# Altium footprint library PcbLib1.PcbLib: 264 footprints (part 7 of 17)
Each footprint in its own frame and in the unit in brackets; x right, y up, seen from the top. Pads: shape width x height; smd on the part's side, far side on the other; paste and mask are expansions set on the pad; w line width, h text height; cw(c..) or ccw(c..) is an arc to the next point about the centre after c.
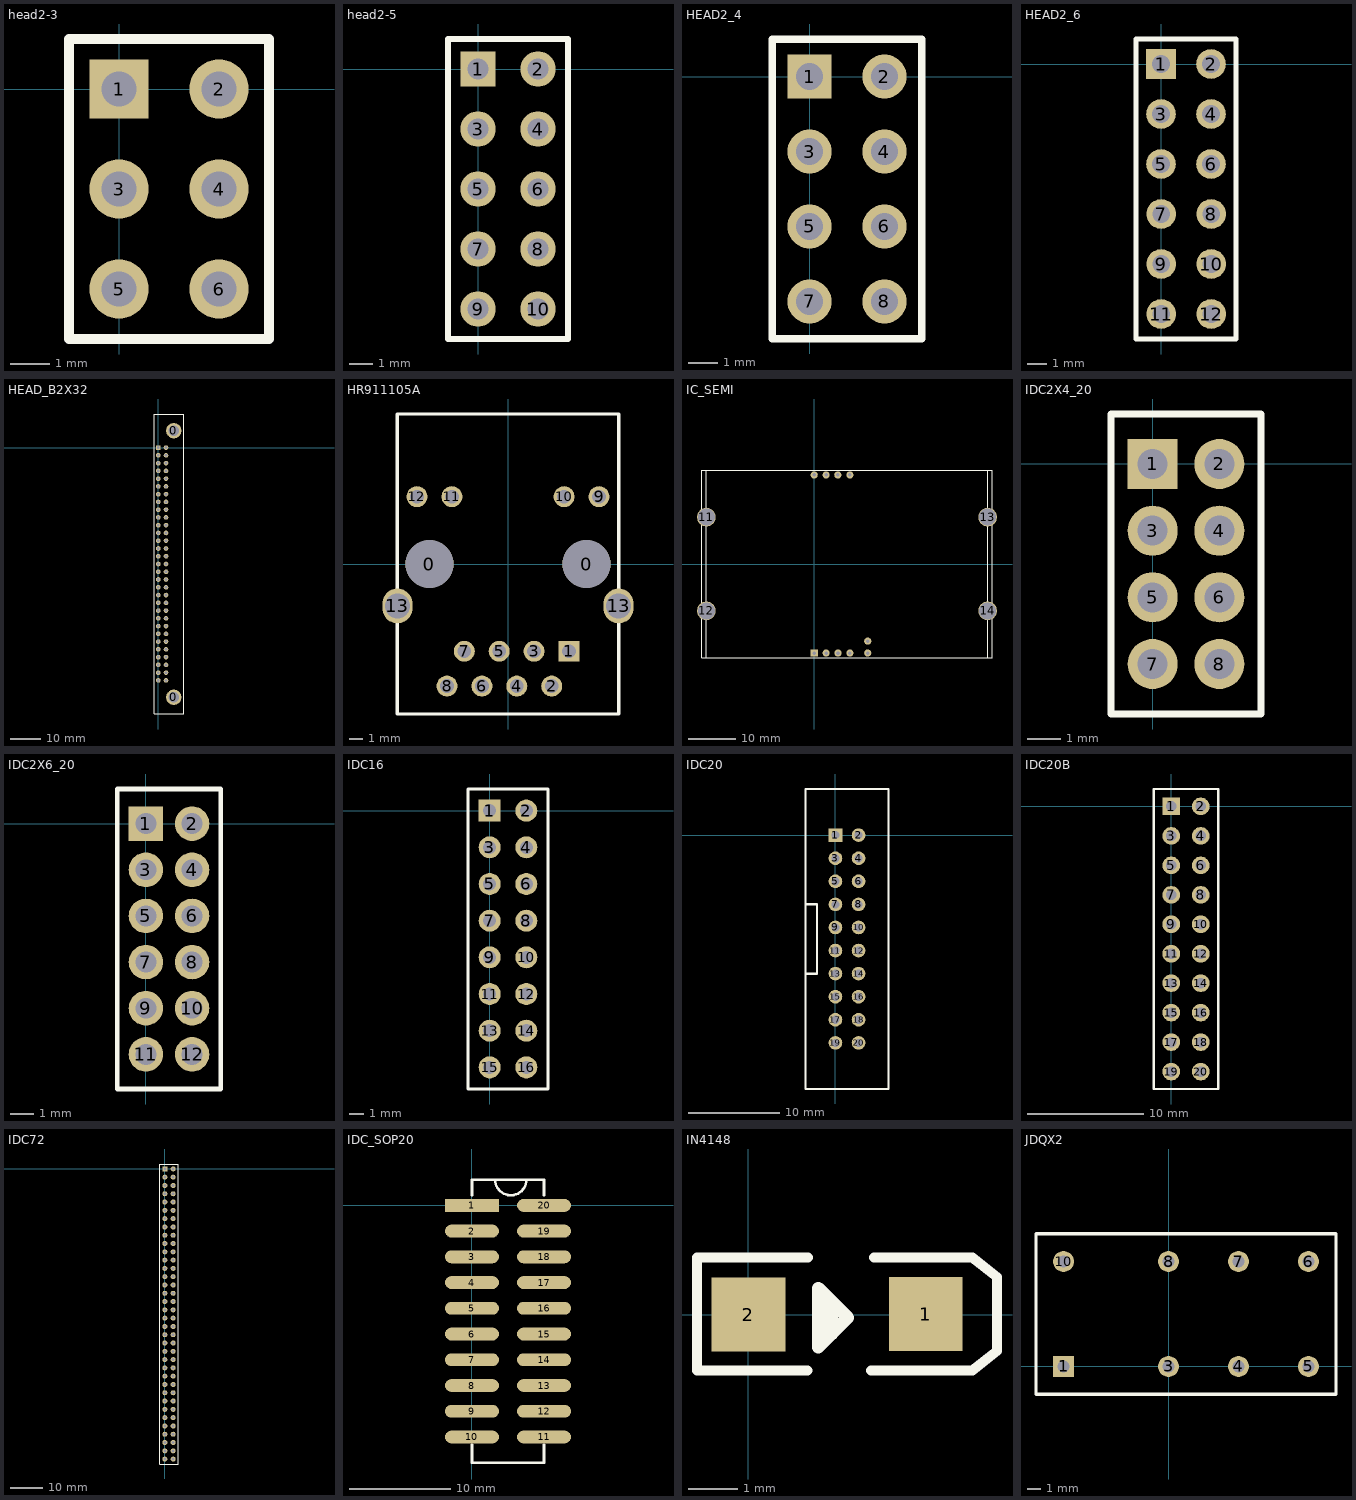
[diagram p6: the footprints below, top view; thin cyan lines are the x and y axes]

## head2-3 [mm]
pads (6):
  rect 1.5x1.5 hole 0.9: 1(0,0)
  round 1.5 hole 0.9: 2(2.54,0) 3(0,-2.54) 4(2.54,-2.54) 5(0,-5.08) 6(2.54,-5.08)
Top Overlay:
  lines w0.254: 3.8,-6.35 -1.27,-6.35 -1.27,1.27 3.81,1.27 3.81,-6.35

## head2-5 [mm]
pads (10):
  rect 1.5x1.5 hole 0.9: 1(0,0)
  round 1.5 hole 0.9: 2(2.54,0) 3(0,-2.54) 4(2.54,-2.54) 5(0,-5.08) 6(2.54,-5.08) 7(0,-7.62) 8(2.54,-7.62) 9(0,-10.16) 10(2.54,-10.16)
Top Overlay:
  lines w0.254: -1.27,-11.43 3.81,-11.43 3.81,1.27 -1.27,1.27 -1.27,-11.43

## HEAD2_4 [mm]
pads (8):
  rect 1.5x1.5 hole 0.9: 1(0,0)
  round 1.5 hole 0.9: 2(2.54,0) 3(0,-2.54) 4(2.54,-2.54) 5(0,-5.08) 6(2.54,-5.08) 7(0,-7.62) 8(2.54,-7.62)
Top Overlay:
  lines w0.254: -1.27,-8.89 3.81,-8.89 3.81,1.27 -1.27,1.27 -1.27,-8.89

## HEAD2_6 [mm]
pads (12):
  rect 1.5x1.5 hole 0.9: 1(0,0)
  round 1.5 hole 0.9: 2(2.54,0) 3(0,-2.54) 4(2.54,-2.54) 5(0,-5.08) 6(2.54,-5.08) 7(0.01,-7.62) 8(2.55,-7.62) 9(0.01,-10.16) 10(2.55,-10.16) 11(0.01,-12.7) 12(2.55,-12.7)
Top Overlay:
  lines w0.254: -1.27,-13.97 3.81,-13.97 3.81,1.27 -1.27,1.27 -1.27,-13.97

## HEAD_B2X32 [mm]
pads (64):
  round 5 hole 3.5: 0(5.08,-81.74) 0(5.08,5.54)
  rect 1.5x1.5 hole 0.9: 1(0,0)
  round 1.5 hole 0.9: 2(2.54,0) 3(0,-2.54) 4(2.54,-2.54) 5(0,-5.08) 6(2.54,-5.08) 7(0,-7.62) 8(2.54,-7.62) 9(0,-10.16) 10(2.54,-10.16) 11(0,-12.7) 12(2.54,-12.7) 13(0,-15.24) 14(2.54,-15.24) 15(0,-17.78) 16(2.54,-17.78) 17(0,-20.32) 18(2.54,-20.32) 19(0,-22.86) 20(2.54,-22.86) 21(0,-25.4) 22(2.54,-25.4) 23(0,-27.94) 24(2.54,-27.94) 25(0,-30.48) 26(2.54,-30.48) 27(0,-33.02) 28(2.54,-33.02) 29(0,-35.56) 30(2.54,-35.56) 31(0,-38.1) 32(2.54,-38.1) 33(0,-40.64) 34(2.54,-40.64) 35(0,-43.18) 36(2.54,-43.18) 37(0,-45.72) 38(2.54,-45.72) 39(0,-48.26) 40(2.54,-48.26) 41(0,-50.8) 42(2.54,-50.8) 43(0,-53.34) 44(2.54,-53.34) 45(0,-55.88) 46(2.54,-55.88) 47(0,-58.42) 48(2.54,-58.42) 49(0,-60.96) 50(2.54,-60.96) 51(0,-63.5) 52(2.54,-63.5) 53(0,-66.04) 54(2.54,-66.04) 55(0,-68.58) 56(2.54,-68.58) 57(0,-71.12) 58(2.54,-71.12) 59(0,-73.66) 60(2.54,-73.66) 61(0,-76.2) 62(2.54,-76.2)
Top Overlay:
  lines w0.254: -1.27,-87.2 -1.27,11 8.3,11 8.3,-87.2 -1.27,-87.2

## HR911105A [mm]
pads (16):
  round 3.5 hole 3.5: 0(-5.715,0) 0(5.715,0)
  rect 1.524x1.524 hole 1: 1(4.44,-6.35)
  round 1.524 hole 1: 2(3.18,-8.89) 3(1.9,-6.35) 4(0.64,-8.89) 5(-0.64,-6.35) 6(-1.9,-8.89) 7(-3.18,-6.35) 8(-4.44,-8.89) 9(6.625,4.9) 10(4.085,4.9) 11(-4.085,4.9) 12(-6.625,4.9)
  oval 2.2x2.54 hole 1.8: 13(-8.05,-3.05) 13(8.05,-3.05)
Top Overlay:
  lines w0.254: -8.05,-10.92 -8.05,10.92 8.05,10.92 8.05,-10.92 -8.05,-10.92

## IC_SEMI [mm]
pads (14):
  rect 1.524x1.524 hole 0.762: 1(0,-19.01)
  round 1.524 hole 0.762: 2(2.54,-19) 3(5.08,-19) 4(7.62,-19) 5(0,19) 6(2.54,19) 7(5.04,19) 8(7.62,19) 9(11.42,-19) 10(11.42,-16.46)
  round 4 hole 3.6: 11(-23,10) 12(-23,-10) 13(37,10) 14(37,-10)
Top Overlay:
  lines w0.127: -24,-20 -24,20 38,20 38,-20 -24,-20
  lines w0.254: -23,-20 -23,20 ; 37,-20 37,20

## IDC2X4_20 [mm]
pads (8):
  rect 1.5x1.5 hole 0.9: 1(0,0)
  round 1.5 hole 0.9: 2(2,0) 3(0,-2) 4(2,-2) 5(0,-4) 6(2,-4) 7(0,-6) 8(2,-6)
Top Overlay:
  lines w0.2: -1.25,-7.5 3.25,-7.5 3.25,1.5 -1.25,1.5 -1.25,-7.5

## IDC2X6_20 [mm]
pads (12):
  rect 1.5x1.5 hole 0.9: 1(0,0)
  round 1.5 hole 0.9: 2(2,0) 3(0,-2) 4(2,-2) 5(0,-4) 6(2,-4) 7(0,-6) 8(2,-6) 9(0,-8) 10(2,-8) 11(0,-10) 12(2,-10)
Top Overlay:
  lines w0.2: -1.25,-11.5 3.25,-11.5 3.25,1.5 -1.25,1.5 -1.25,-11.5

## IDC16 [mil]
pads (16):
  rect 60x60 hole 35.43: 1(0,0)
  round 60 hole 35.43: 2(100,0) 3(0,-100) 4(100,-100) 5(0,-200) 6(100,-200) 7(0,-300) 8(100,-300) 9(0,-400) 10(100,-400) 11(0,-500) 12(100,-500) 13(0,-600) 14(100,-600) 15(0,-700) 16(100,-700)
Top Overlay:
  lines w7.87: -59.06,-759.06 159.06,-759.06 159.06,59.06 -59.06,59.06 -59.06,-759.06

## IDC20 [mm]
pads (20):
  rect 1.5x1.5 hole 0.9: 1(0,0)
  round 1.5 hole 0.9: 2(2.54,0) 3(0,-2.54) 4(2.54,-2.54) 5(0,-5.08) 6(2.54,-5.08) 7(0,-7.62) 8(2.54,-7.62) 9(0,-10.16) 10(2.54,-10.16) 11(0,-12.7) 12(2.54,-12.7) 13(0,-15.24) 14(2.54,-15.24) 15(0,-17.78) 16(2.54,-17.78) 17(0,-20.32) 18(2.54,-20.32) 19(0,-22.86) 20(2.54,-22.86)
Top Overlay:
  lines w0.254: -3.302,-15.24 -2.032,-15.24 -2.032,-7.62 -3.302,-7.62 ; -3.302,-27.94 -3.302,5.08 5.842,5.08 5.842,-27.94 -3.302,-27.94

## IDC20B [mil]
pads (20):
  rect 60x60 hole 35.43: 1(0,0)
  round 60 hole 35.43: 2(100,0) 3(0,-100) 4(100,-100) 5(0,-200) 6(100,-200) 7(0,-300) 8(100,-300) 9(0,-400) 10(100,-400) 11(0,-500) 12(100,-500) 13(0,-600) 14(100,-600) 15(0,-700) 16(100,-700) 17(0,-800) 18(100,-800) 19(0,-900) 20(100,-900)
Top Overlay:
  lines w7.87: -59.06,-959.06 -59.06,59.06 159.06,59.06 159.06,-959.06 -59.06,-959.06

## IDC72 [mil]
pads (72):
  rect 60x60 hole 35.43: 1(0,0)
  round 60 hole 35.43: 2(100,0) 3(0,-100) 4(100,-100) 5(0,-200) 6(100,-200) 7(0,-300) 8(100,-300) 9(0,-400) 10(100,-400) 11(0,-500) 12(100,-500) 13(0,-600) 14(100,-600) 15(0,-700) 16(100,-700) 17(0,-800) 18(100,-800) 19(0,-900) 20(100,-900) 21(0,-1000) 22(100,-1000) 23(0,-1100) 24(100,-1100) 25(0,-1200) 26(100,-1200) 27(0,-1300) 28(100,-1300) 29(0,-1400) 30(100,-1400) 31(0,-1500) 32(100,-1500) 33(0,-1600) 34(100,-1600) 35(0,-1700) 36(100,-1700) 37(0,-1800) 38(100,-1800) 39(0,-1900) 40(100,-1900) 41(0,-2000) 42(100,-2000) 43(0,-2100) 44(100,-2100) 45(0,-2200) 46(100,-2200) 47(0,-2300) 48(100,-2300) 49(0,-2400) 50(99.61,-2400) 51(0,-2500) 52(100,-2500) 53(0,-2600) 54(100,-2600) 55(0,-2700) 56(100,-2700) 57(0,-2800) 58(100,-2800) 59(0,-2900) 60(100,-2900) 61(0,-3000) 62(100,-3000) 63(0,-3100) 64(100,-3100) 65(0,-3200) 66(100,-3200) 67(0,-3300) 68(100,-3300) 69(0,-3400) 70(100,-3400) 71(0,-3500) 72(100,-3500)
Top Overlay:
  lines w3.94: -59.06,-3559.06 159.06,-3559.06 159.06,59.06 -59.06,59.06 -59.06,-3559.06

## IDC_SOP20 [mil]
pads (20):
  rect 210x50 smd: 1(0,0)
  oval 210x50 smd: 2(0,-100) 3(0,-200) 4(0,-300) 5(0,-400) 6(0,-500) 7(0,-600) 8(0,-700) 9(0,-800) 10(0,-900) 11(280,-900) 12(280,-800) 13(280,-700) 14(280,-600) 15(280,-500) 16(280,-400) 17(280,-300) 18(280,-200) 19(280,-100) 20(280,0)
Top Overlay:
  lines w10: 0,-930 0,-1000 280,-1000 280,-930 ; 0,40 0,100 140,100 280,100 280,40 ; 90,100 ccw(c150.83,100) 211.66,100

## IN4148 [mm]
pads (2):
  rect 1.5x1.5 smd: 1(3.603,0.013) 2(0,0)
Top Overlay:
  lines w0.2: 1.2,-1.137 -1.047,-1.137 -1.047,1.163 1.21,1.163 ; 2.49,-1.137 4.553,-1.137 5.053,-0.737 5.053,0.763 4.553,1.163 2.55,1.163
  lines w0.254: 1.42,-0.66 2.02,-0.06 1.42,0.54 1.42,-0.66
  lines w0.3: 1.68,-0.38 1.68,0.22

## JDQX2 [mil]
pads (8):
  rect 60x60 hole 35.43: 1(-300,0)
  round 60 hole 35.43: 3(0,0) 4(200,0) 5(400,0) 6(400,300) 7(200,300) 8(0,300) 10(-300,300)
Top Overlay:
  lines w10: -378.74,-78.74 478.74,-78.74 478.74,378.74 -378.74,378.74 -378.74,-78.74